# Altium footprint library 杂项库.PcbLib: 585 footprints (part 33 of 37)
Each footprint in its own frame and in the unit in brackets; x right, y up, seen from the top. Pads: shape width x height; smd on the part's side, far side on the other; paste and mask are expansions set on the pad; w line width, h text height; cw(c..) or ccw(c..) is an arc to the next point about the centre after c.
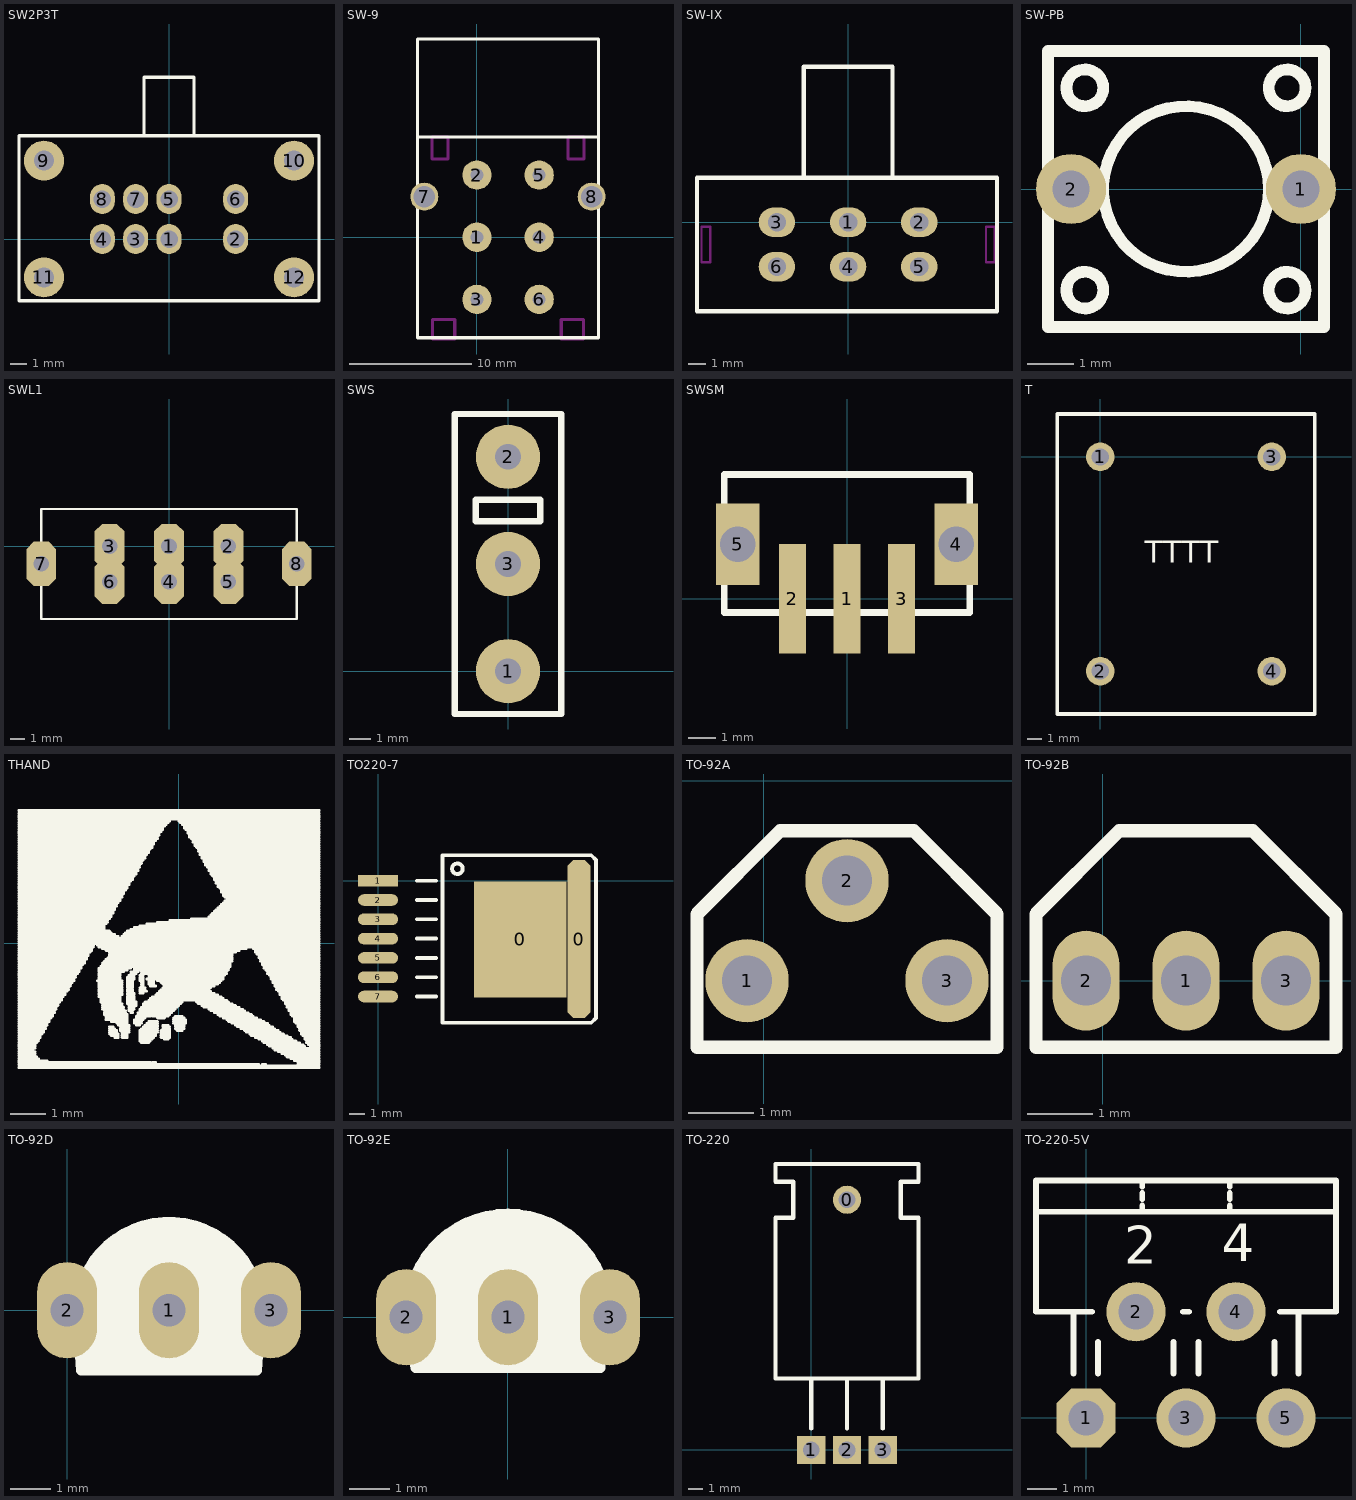
[diagram p32: the footprints below, top view; thin cyan lines are the x and y axes]

## SW2P3T [mm]
pads (12):
  oval 1.5x1.8 hole 1.05: 1(0,0) 2(4,0) 3(-2,0) 4(-4,0) 5(0,2.4) 6(4,2.4) 7(-2,2.4) 8(-4,2.4)
  round 2.4 hole 1.2: 9(-7.5,4.703) 10(7.5,4.703) 11(-7.5,-2.297) 12(7.5,-2.297)
Top Overlay:
  lines w0.2: -9,-3.697 -9,6.203 9,6.203 9,-3.697 -9,-3.697 ; -1.5,6.203 1.5,6.203 1.5,9.703 -1.5,9.703 -1.5,6.203

## SW-9 [mm]
pads (8):
  round 2.4 hole 1.05: 1(0,0) 2(0,5.08) 3(0,-5.08) 4(5.08,0) 5(5.08,5.08) 6(5.08,-5.08)
  round 2.286 hole 1.778: 7(-4.3,3.313) 8(9.37,3.313)
Top Overlay:
  lines w0.254: -4.865,8.188 9.935,8.188 ; -4.865,-8.212 9.935,-8.212 9.935,16.188 -4.865,16.188 -4.865,-8.212
Keep-Out Layer:
  lines w0.25: -3.665,6.388 -3.665,8.188 -2.365,8.188 -2.365,6.388 -3.665,6.388 ; -3.615,-8.312 -1.815,-8.312 -1.815,-6.712 -3.615,-6.712 -3.615,-8.312 ; 6.885,-8.312 8.685,-8.312 8.685,-6.712 6.885,-6.712 6.885,-8.312 ; 7.435,6.388 7.435,8.188 8.735,8.188 8.735,6.388 7.435,6.388

## SW-IX [mil]
pads (6):
  oval 82x67 hole 41.34: 1(0,0) 2(160,0) 3(-160,0) 4(0,-100) 5(160,-100) 6(-160,-100)
Top Overlay:
  lines w9.84: -99.92,99.81 -99.92,349.81 100.08,349.81 100.08,99.81 ; -339.92,-200.19 335.08,-200.19 335.08,99.81 -339.92,99.81 -339.92,-200.19
Keep-Out Layer:
  lines w5: -329.92,-90.19 -309.92,-90.19 -309.92,-50 -309.92,-10.19 -329.92,-10.19 -329.92,-90.19 ; 310.08,-90.19 330.08,-90.19 330.08,-10.19 310.08,-10.19 310.08,-50 310.08,-90.19

## SW-PB [mil]
pads (2):
  round 60 hole 32: 1(0,0) 2(-196.85,0)
Top Overlay:
  circle w10: c-11.81,86.61 r15.75
  circle w10: c-185.04,86.61 r15.75
  circle w10: c-185.04,-86.61 r15.75
  circle w10: c-11.81,-86.61 r15.75
  circle w10: c-98.42,0 r70.87
  lines w10: -216.53,-118.11 -216.53,118.11 19.68,118.11 19.68,-118.11 -98.42,-118.11 -216.53,-118.11

## SWL1 [mm]
pads (8):
  oct 2x3 hole 1.05: 1(0,0) 2(4,0) 3(-4,0) 4(0,-2.4) 5(4,-2.4) 6(-4,-2.4) 7(-8.6,-1.2) 8(8.6,-1.2)
Top Overlay:
  lines w0.15: -8.597,-4.907 8.603,-4.907 8.603,2.493 -8.597,2.493 -8.597,-4.907
Keep-Out Layer:
  lines w0.1: -8.997,-2.307 -8.997,-0.107 -7.997,-0.107 -7.997,-2.307 -8.997,-2.307 ; -4.697,-2.807 -3.297,-2.807 -3.297,-2.007 -4.697,-2.007 -4.697,-2.807 ; -4.697,-0.407 -4.697,0.393 -3.297,0.393 -3.297,-0.407 -4.697,-0.407 ; -0.697,-2.807 0.703,-2.807 0.703,-2.007 -0.697,-2.007 -0.697,-2.807 ; -0.697,-0.407 -0.697,0.393 0.703,0.393 0.703,-0.407 -0.697,-0.407 ; 3.303,-2.807 3.303,-2.007 4.703,-2.007 4.703,-2.807 3.303,-2.807 ; 3.303,-0.407 4.703,-0.407 4.703,0.393 3.303,0.393 3.303,-0.407 ; 8.003,-2.307 8.003,-0.107 9.003,-0.107 9.003,-2.307 8.003,-2.307

## SWS [mm]
pads (3):
  round 3 hole 1.2: 1(0,0) 2(0,10) 3(0,5)
Top Overlay:
  lines w0.3: -2.492,-2 2.492,-2 2.492,12 -2.492,12 -2.492,-2 ; -1.5,7 1.5,7 1.5,8 -1.5,8 -1.5,7

## SWSM [mm]
pads (5):
  rect 1x4 all layers, no hole: 1(0,0) 2(-2,0) 3(2,0)
  rect 1.6x3 hole 1.3: 4(4,2) 5(-4,2)
Top Overlay:
  lines w0.254: -4.5,-0.5 4.5,-0.5 4.5,4.55 -4.5,4.55 -4.5,-0.5

## T [mm]
pads (4):
  round 2 hole 1.2: 1(0,0) 2(0,-15) 3(12,0) 4(12,-15)
Top Overlay:
  lines w0.254: -3,-18 15,-18 15,3 -3,3 -3,-18
  text "TTTT" at 3.1,-7.4 h1.52

## THAND [mil]
Top Overlay:
  drawing of 472 lines, arcs and shapes, not listed

## TO220-7 [mil]
pads (9):
  rect 240x300 smd: 0(368,-152)
  oct 60x410 smd: 0(520,-151)
  rect 104x30 smd: 1(0,0)
  oval 104x30 smd: 2(0,-50) 3(0,-100) 4(0,-150) 5(0,-200) 6(0,-250) 7(0,-300)
Top Overlay:
  circle w10: c205.4,31 r13.6
  lines w10: 100,-300 150,-300 ; 100,-250 150,-250 ; 100,-200 150,-200 ; 100,-150 150,-150 ; 100,-100 150,-100 ; 100,-50 150,-50 ; 100,0 150,0 ; 167,-368 537,-368 552,-368 564,-356 564,54 552,66 537,66 167,66 167,-368

## TO-92A [mil]
pads (3):
  round 50 hole 30: 1(-10,-120) 2(50,-60) 3(110,-120)
Top Overlay:
  lines w8: -40,-160 140,-160 140,-80 90,-30 10,-30 -40,-80 -40,-160

## TO-92B [mil]
pads (3):
  oval 40x60 hole 30: 1(50,0) 2(-10,0) 3(110,0)
Top Overlay:
  lines w8: -40,-40 140,-40 140,40 90,90 10,90 -40,40 -40,-40

## TO-92D [mm]
pads (3):
  oval 1.5x2.4 hole 0.82: 1(2.54,0) 2(0,0) 3(5.08,0)
Top Overlay:
  lines w0.25: 0.29,-0.5 0.29,0 ; 0.34,0 cw(c2.54,-0.116) 4.74,0 ; 0.39,-1.5 0.39,0 ; 0.39,-1.45 4.59,-1.45 ; 0.39,-1.35 4.59,-1.35 ; 0.39,-1.25 4.59,-1.25 ; 0.39,-1.15 4.59,-1.15 ; 0.39,-1.05 4.59,-1.05 ; 0.39,-0.95 4.59,-0.95 ; 0.39,-0.85 4.59,-0.85 ; 0.39,-0.75 4.59,-0.75 ; 0.39,-0.65 4.59,-0.65 ; 0.44,-0.55 4.64,-0.55 ; 0.44,-0.45 4.64,-0.45 ; 0.44,-0.35 4.64,-0.35 ; 0.44,-0.25 4.64,-0.25 ; 0.44,-0.15 4.64,-0.15 ; 0.44,-0.05 4.64,-0.05 ; 0.44,0 cw(c2.54,-0.11) 4.64,0 ; 0.54,0 cw(c2.54,-0.105) 4.54,0 ; 0.64,0 cw(c2.54,-0.1) 4.44,0 ; 0.74,0 cw(c2.54,-0.094) 4.34,0 ; 0.84,0 cw(c2.54,-0.089) 4.24,0 ; 0.94,0 cw(c2.54,-0.084) 4.14,0 ; 1.04,0 cw(c2.54,-0.079) 4.04,0 ; 1.14,0 cw(c2.54,-0.073) 3.94,0 ; 1.24,0 cw(c2.54,-0.068) 3.84,0 ; 1.34,0 cw(c2.54,-0.063) 3.74,0 ; 1.44,0 cw(c2.54,-0.058) 3.64,0 ; 1.54,0 cw(c2.54,-0.052) 3.54,0 ; 1.64,0 cw(c2.54,-0.047) 3.44,0 ; 1.74,0 cw(c2.54,-0.042) 3.34,0 ; 1.84,0 cw(c2.54,-0.037) 3.24,0 ; 1.94,0 cw(c2.54,-0.031) 3.14,0 ; 2.04,0 cw(c2.54,-0.026) 3.04,0 ; 2.14,0 cw(c2.54,-0.021) 2.94,0 ; 2.24,0 cw(c2.54,-0.016) 2.84,0 ; 4.69,-1.5 4.69,0 ; 4.79,-0.5 4.79,0 ; 0.24,0 cw(c2.54,-0.093) 4.84,0 4.74,-1.5 0.34,-1.5 0.24,0

## TO-92E [mm]
pads (3):
  oval 1.5x2.4 hole 0.82: 1(0.006,0.008) 2(-2.534,0.008) 3(2.546,0.008)
Top Overlay:
  lines w0.25: -2.394,-0.492 -2.394,0.008 cw(c0.006,0.106) 2.406,0.008 2.406,-0.492 ; -2.294,-1.192 -2.294,0.008 cw(c0.006,0.1) 2.306,0.008 2.306,-1.192 ; -2.194,-1.192 2.206,-1.192 ; -2.194,-1.092 2.206,-1.092 ; -2.194,-0.992 2.206,-0.992 ; -2.194,-0.892 2.206,-0.892 ; -2.194,-0.792 2.206,-0.792 ; -2.194,-0.692 2.206,-0.692 ; -2.194,-0.592 2.206,-0.592 ; -2.194,-0.492 2.206,-0.492 ; -2.194,-0.392 2.206,-0.392 ; -2.194,-0.292 2.206,-0.292 ; -2.194,-0.192 2.206,-0.192 ; -2.194,-0.092 2.206,-0.092 ; -2.194,0.008 cw(c0.006,0.096) 2.206,0.008 ; -2.094,0.008 cw(c0.006,0.092) 2.106,0.008 ; -1.994,0.008 cw(c0.006,0.088) 2.006,0.008 ; -1.894,0.008 cw(c0.006,0.084) 1.906,0.008 ; -1.794,0.008 cw(c0.006,0.08) 1.806,0.008 ; -1.694,0.008 cw(c0.006,0.076) 1.706,0.008 ; -1.594,0.008 cw(c0.006,0.072) 1.606,0.008 ; -1.494,0.008 cw(c0.006,0.068) 1.506,0.008 ; -1.394,0.008 cw(c0.006,0.064) 1.406,0.008 ; -1.294,0.008 cw(c0.006,0.06) 1.306,0.008 ; -1.194,0.008 cw(c0.006,0.056) 1.206,0.008 ; -1.094,0.008 cw(c0.006,0.052) 1.106,0.008 ; -0.994,0.008 cw(c0.006,0.048) 1.006,0.008 ; -0.894,0.008 cw(c0.006,0.044) 0.906,0.008 ; -0.794,0.008 cw(c0.006,0.04) 0.806,0.008 ; -0.694,0.008 cw(c0.006,0.036) 0.706,0.008 ; -0.594,0.008 cw(c0.006,0.032) 0.606,0.008 ; -0.494,0.008 cw(c0.006,0.028) 0.506,0.008 ; -0.394,0.008 cw(c0.006,0.024) 0.406,0.008 ; -0.294,0.008 cw(c0.006,0.02) 0.306,0.008 ; -0.194,0.008 cw(c0.006,0.016) 0.206,0.008 ; -2.494,0.008 cw(c0.006,0.086) 2.506,0.008 2.306,-1.262 -2.296,-1.262 -2.494,0.008

## TO-220 [mm]
pads (4):
  round 2 hole 1.2: 0(2.54,17.78)
  rect 2x2 hole 1.2: 1(0,0) 2(2.54,0) 3(5.08,0)
Top Overlay:
  lines w0.305: 0,1.524 0,5.08 ; 2.54,1.524 2.54,5.08 ; 5.08,1.524 5.08,5.08 ; -2.54,5.08 7.62,5.08 7.62,16.51 6.35,16.51 6.35,19.05 7.62,19.05 7.62,20.32 -2.54,20.32 -2.54,19.05 -1.27,19.05 -1.27,16.51 -2.54,16.51 -2.54,5.08

## TO-220-5V [mm]
pads (5):
  oct 2x2 hole 1.2: 1(0,0)
  round 2 hole 1.2: 2(1.693,3.598) 3(3.387,0) 4(5.08,3.598) 5(6.773,0)
Top Overlay:
  lines w0.2: -1.693,6.985 8.467,6.985 ; -0.423,1.5 -0.423,3.598 ; 0.2,3.598 -1.693,3.598 -1.693,8.043 8.467,8.043 8.467,3.598 6.573,3.598 ; 0.4,1.5 0.4,2.578 ; 1.905,6.985 1.905,7.197 ; 1.905,7.408 1.905,7.62 ; 1.905,7.832 1.905,8.043 ; 2.963,1.5 2.963,2.578 ; 3.287,3.598 3.487,3.598 ; 3.81,1.5 3.81,2.578 ; 4.868,6.985 4.868,7.197 ; 4.868,7.408 4.868,7.62 ; 4.868,7.832 4.868,8.043 ; 6.381,1.5 6.381,2.578 ; 7.197,1.5 7.197,3.598
  text "4" at 4.597,5.301 h1.27
  text "2" at 1.301,5.216 h1.27